# EAGLE library part TCA9509DGKR (library U-TI-TCA9509DGKR-I2C_repeater)
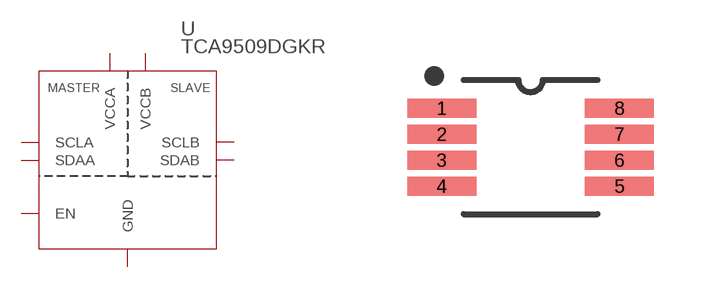
[diagram p0: symbol with the pads of DGK8-M; footprint DGK8-M]

Designator prefix U

## TCA9509DGKRDGK8-M (MANUFACTURER_PART_NUMBER: TCA9509DGKR; VENDOR: Texas Instruments)  [DGK8-M]
1  VCCA  pwr
2  SCLA
3  SDAA
4  GND  pwr
5  EN  in
6  SDAB
7  SCLB
8  VCCB  pwr

## Footprint DGK8-M (pad centres in mm)
smd 1.727 x 0.483: 1 -2.223,0.975; 2 -2.223,0.325; 3 -2.223,-0.325; 4 -2.223,-0.975; 5 2.223,-0.975; 6 2.223,-0.325; 7 2.223,0.325; 8 2.223,0.975